# EAGLE library part LTC6004 (library 7_4LTC4006)
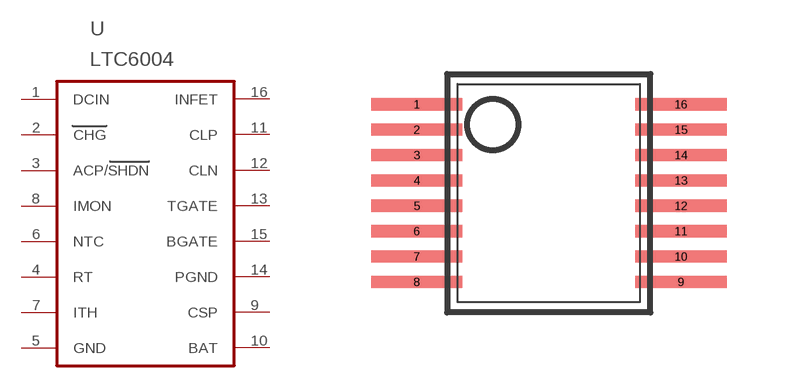
[diagram p0: symbol with the pads of SSOP-16; footprint SSOP-16]

Designator prefix -

## LTC6004  [SSOP-16]
1  DCIN  pwr
2  CHG  pwr
3  ACP/SHDN  pwr
4  RT  in
5  GND  in
6  NTC  pwr
7  ITH  in
8  IMON  pwr
9  CSP  pwr
10  BAT  pwr
11  CLP  out
12  CLN  pwr
13  TGATE  in
14  PGND  pwr
15  BGATE  pwr
16  INFET  out

## Footprint SSOP-16 (pad centres in mm)
smd 2.286 x 0.305: 1 -3.302,2.349; 2 -3.302,1.714; 3 -3.302,1.079; 4 -3.302,0.444; 5 -3.302,-0.191; 6 -3.302,-0.826; 7 -3.302,-1.461; 8 -3.302,-2.096; 9 3.302,-2.096; 10 3.302,-1.461; 11 3.302,-0.826; 12 3.302,-0.191; 13 3.302,0.444; 14 3.302,1.079; 15 3.302,1.714; 16 3.302,2.349